# Altium schematic symbol library J60_connector.SchLib: 1 symbol
Pins are listed as number, name and electrical type; pins without a type are passive.

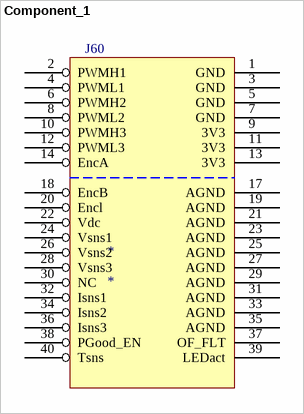
[diagram p0: symbol Component_1]

## Component_1
designator *
pins: 1 GND, 2 PWMH1, 3 GND, 4 PWML1, 5 GND, 6 PWMH2, 7 GND, 8 PWML2, 9 3V3, 10 PWMH3, 11 3V3, 12 PWML3, 13 3V3, 14 EncA, 17 AGND, 18 EncB, 19 AGND, 20 Encl, 21 AGND, 22 Vdc, 23 AGND, 24 Vsns1, 25 AGND, 26 Vsns2, 27 AGND, 28 Vsns3, 29 AGND, 30 NC, 31 AGND, 32 Isns1, 33 AGND, 34 Isns2, 35 AGND, 36 Isns3, 37 OF_FLT, 38 PGood_EN, 39 LEDact, 40 Tsns
text: J60